# Altium footprint library con-tyco.PCBLIB: 9 footprints
Each footprint in its own frame and in the unit in brackets; x right, y up, seen from the top. Pads: shape width x height; smd on the part's side, far side on the other; paste and mask are expansions set on the pad; w line width, h text height; cw(c..) or ccw(c..) is an arc to the next point about the centre after c.
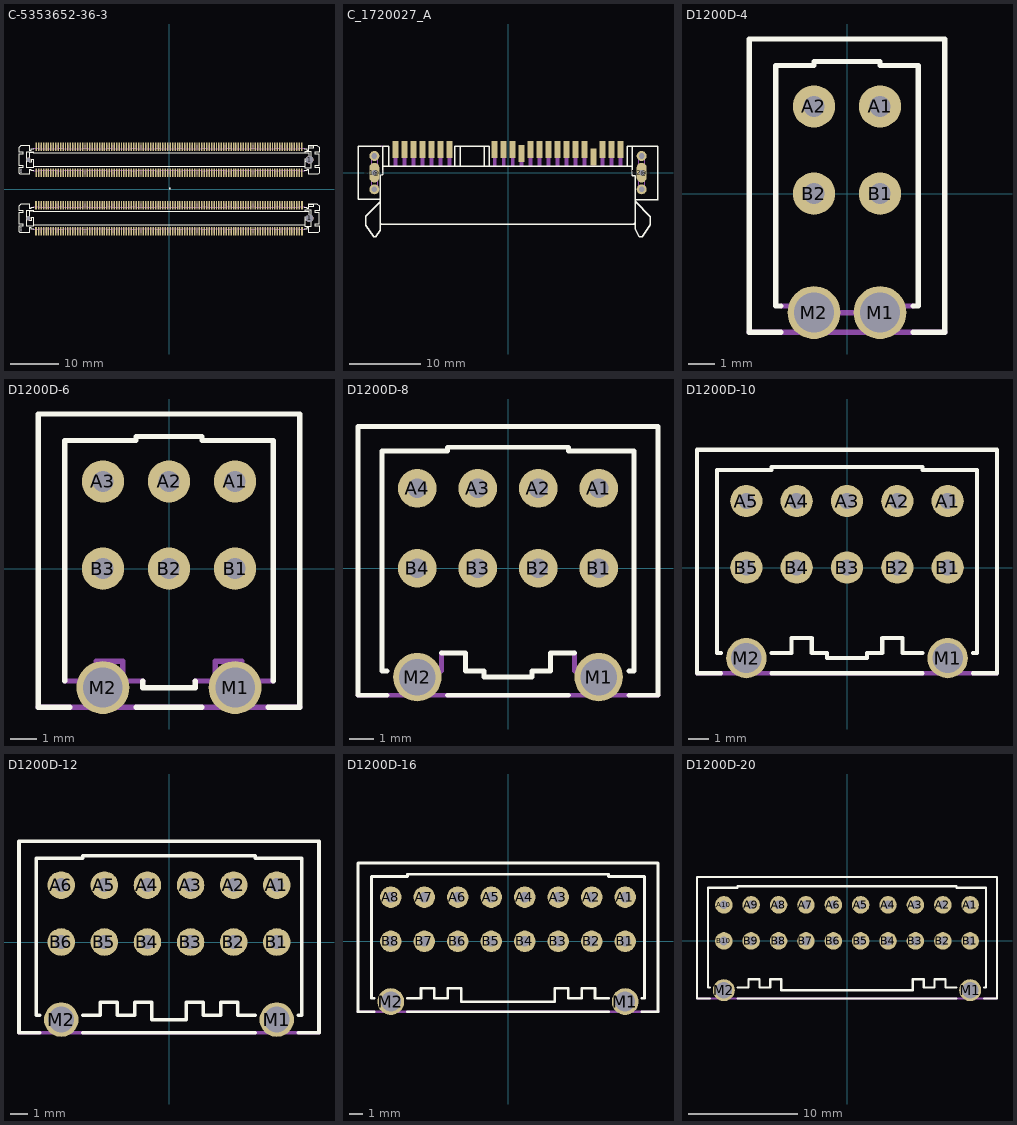
[diagram p0: the footprints below, top view; thin cyan lines are the x and y axes]

## C-5353652-36-3 [mm]
pads (446):
  round 0.9 hole 0.9: 1(-28.85,-6) 1(-28.85,-6) 1(-28.85,6)
  round 1.6 hole 1.6: 1(28.85,-6) 1(28.85,-6) 1(28.85,6)
  rect 0.3x1.75 smd: A1(27.25,8.675) A2(26.75,8.675) A3(26.25,8.675) A4(25.75,8.675) A5(25.25,8.675) A6(24.75,8.675) A7(24.25,8.675) A8(23.75,8.675) A9(23.25,8.675) A10(22.75,8.675) A11(22.25,8.675) A12(21.75,8.675) A13(21.25,8.675) A14(20.75,8.675) A15(20.25,8.675) A16(19.75,8.675) A17(19.25,8.675) A18(18.75,8.675) A19(18.25,8.675) A20(17.75,8.675) A21(17.25,8.675) A22(16.75,8.675) A23(16.25,8.675) A24(15.75,8.675) A25(15.25,8.675) A26(14.75,8.675) A27(14.25,8.675) A28(13.75,8.675) A29(13.25,8.675) A30(12.75,8.675) A31(12.25,8.675) A32(11.75,8.675) A33(11.25,8.675) A34(10.75,8.675) A35(10.25,8.675) A36(9.75,8.675) A37(9.25,8.675) A38(8.75,8.675) A39(8.25,8.675) A40(7.75,8.675) A41(7.25,8.675) A42(6.75,8.675) A43(6.25,8.675) A44(5.75,8.675) A45(5.25,8.675) A46(4.75,8.675) A47(4.25,8.675) A48(3.75,8.675) A49(3.25,8.675) A50(2.75,8.675) A51(2.25,8.675) A52(1.75,8.675) A53(1.25,8.675) A54(0.75,8.675) A55(0.25,8.675) A56(-0.25,8.675) A57(-0.75,8.675) A58(-1.25,8.675) A59(-1.75,8.675) A60(-2.25,8.675) A61(-2.75,8.675) A62(-3.25,8.675) A63(-3.75,8.675) A64(-4.25,8.675) A65(-4.75,8.675) A66(-5.25,8.675) A67(-5.75,8.675) A68(-6.25,8.675) A69(-6.75,8.675) A70(-7.25,8.675) A71(-7.75,8.675) A72(-8.25,8.675) A73(-8.75,8.675) A74(-9.25,8.675) A75(-9.75,8.675) A76(-10.25,8.675) A77(-10.75,8.675) A78(-11.25,8.675) A79(-11.75,8.675) A80(-12.25,8.675) A81(-12.75,8.675) A82(-13.25,8.675) A83(-13.75,8.675) A84(-14.25,8.675) A85(-14.75,8.675) A86(-15.25,8.675) A87(-15.75,8.675) A88(-16.25,8.675) A89(-16.75,8.675) A90(-17.25,8.675) A91(-17.75,8.675) A92(-18.25,8.675) A93(-18.75,8.675) A94(-19.25,8.675) A95(-19.75,8.675) A96(-20.25,8.675) A97(-20.75,8.675) A98(-21.25,8.675) A99(-21.75,8.675) A100(-22.25,8.675) A101(-22.75,8.675) A102(-23.25,8.675) A103(-23.75,8.675) A104(-24.25,8.675) A105(-24.75,8.675) A106(-25.25,8.675) A107(-25.75,8.675) A108(-26.25,8.675) A109(-26.75,8.675) A110(-27.25,8.675) B1(27.25,3.325) B2(26.75,3.325) B3(26.25,3.325) B4(25.75,3.325) B5(25.25,3.325) B6(24.75,3.325) B7(24.25,3.325) B8(23.75,3.325) B9(23.25,3.325) B10(22.75,3.325) B11(22.25,3.325) B12(21.75,3.325) B13(21.25,3.325) B14(20.75,3.325) B15(20.25,3.325) B16(19.75,3.325) B17(19.25,3.325) B18(18.75,3.325) B19(18.25,3.325) B20(17.75,3.325) B21(17.25,3.325) B22(16.75,3.325) B23(16.25,3.325) B24(15.75,3.325) B25(15.25,3.325) B26(14.75,3.325) B27(14.25,3.325) B28(13.75,3.325) B29(13.25,3.325) B30(12.75,3.325) B31(12.25,3.325) B32(11.75,3.325) B33(11.25,3.325) B34(10.75,3.325) B35(10.25,3.325) B36(9.75,3.325) B37(9.25,3.325) B38(8.75,3.325) B39(8.25,3.325) B40(7.75,3.325) B41(7.25,3.325) B42(6.75,3.325) B43(6.25,3.325) B44(5.75,3.325) B45(5.25,3.325) B46(4.75,3.325) B47(4.25,3.325) B48(3.75,3.325) B49(3.25,3.325) B50(2.75,3.325) B51(2.25,3.325) B52(1.75,3.325) B53(1.25,3.325) B54(0.75,3.325) B55(0.25,3.325) B56(-0.25,3.325) B57(-0.75,3.325) B58(-1.25,3.325) B59(-1.75,3.325) B60(-2.25,3.325) B61(-2.75,3.325) B62(-3.25,3.325) B63(-3.75,3.325) B64(-4.25,3.325) B65(-4.75,3.325) B66(-5.25,3.325) B67(-5.75,3.325) B68(-6.25,3.325) B69(-6.75,3.325) B70(-7.25,3.325) B71(-7.75,3.325) B72(-8.25,3.325) B73(-8.75,3.325) B74(-9.25,3.325) B75(-9.75,3.325) B76(-10.25,3.325) B77(-10.75,3.325) B78(-11.25,3.325) B79(-11.75,3.325) B80(-12.25,3.325) B81(-12.75,3.325) B82(-13.25,3.325) B83(-13.75,3.325) B84(-14.25,3.325) B85(-14.75,3.325) B86(-15.25,3.325) B87(-15.75,3.325) B88(-16.25,3.325) B89(-16.75,3.325) B90(-17.25,3.325) B91(-17.75,3.325) B92(-18.25,3.325) B93(-18.75,3.325) B94(-19.25,3.325) B95(-19.75,3.325) B96(-20.25,3.325) B97(-20.75,3.325) B98(-21.25,3.325) B99(-21.75,3.325) B100(-22.25,3.325) B101(-22.75,3.325) B102(-23.25,3.325) B103(-23.75,3.325) B104(-24.25,3.325) B105(-24.75,3.325) B106(-25.25,3.325) B107(-25.75,3.325) B108(-26.25,3.325) B109(-26.75,3.325) B110(-27.25,3.325) C2(26.75,-3.325) C3(26.25,-3.325) C4(25.75,-3.325) C5(25.25,-3.325) C6(24.75,-3.325) C7(24.25,-3.325) C8(23.75,-3.325) C9(23.25,-3.325) C10(22.75,-3.325) C11(22.25,-3.325) C12(21.75,-3.325) C13(21.25,-3.325) C14(20.75,-3.325) C15(20.25,-3.325) C16(19.75,-3.325) C17(19.25,-3.325) C18(18.75,-3.325) C19(18.25,-3.325) C20(17.75,-3.325) C21(17.25,-3.325) C22(16.75,-3.325) C23(16.25,-3.325) C24(15.75,-3.325) C25(15.25,-3.325) C26(14.75,-3.325) C27(14.25,-3.325) C28(13.75,-3.325) C29(13.25,-3.325) C30(12.75,-3.325) C31(12.25,-3.325) C32(11.75,-3.325) C33(11.25,-3.325) C34(10.75,-3.325) C35(10.25,-3.325) C36(9.75,-3.325) C37(9.25,-3.325) C38(8.75,-3.325) C39(8.25,-3.325) C40(7.75,-3.325) C41(7.25,-3.325) C42(6.75,-3.325) C43(6.25,-3.325) C44(5.75,-3.325) C45(5.25,-3.325) C46(4.75,-3.325) C47(4.25,-3.325) C48(3.75,-3.325) C49(3.25,-3.325) C50(2.75,-3.325) C51(2.25,-3.325) C52(1.75,-3.325) C53(1.25,-3.325) C54(0.75,-3.325) C55(0.25,-3.325) C56(-0.25,-3.325) C57(-0.75,-3.325) C58(-1.25,-3.325) C59(-1.75,-3.325) C60(-2.25,-3.325) C61(-2.75,-3.325) C62(-3.25,-3.325) C63(-3.75,-3.325) C64(-4.25,-3.325) C65(-4.75,-3.325) C66(-5.25,-3.325) C67(-5.75,-3.325) C68(-6.25,-3.325) C69(-6.75,-3.325) C70(-7.25,-3.325) C71(-7.75,-3.325) C72(-8.25,-3.325) C73(-8.75,-3.325) C74(-9.25,-3.325) C75(-9.75,-3.325) C76(-10.25,-3.325) C77(-10.75,-3.325) C78(-11.25,-3.325) C79(-11.75,-3.325) C80(-12.25,-3.325) C81(-12.75,-3.325) C82(-13.25,-3.325) C83(-13.75,-3.325) C84(-14.25,-3.325) C85(-14.75,-3.325) C86(-15.25,-3.325) C87(-15.75,-3.325) C88(-16.25,-3.325) C89(-16.75,-3.325) C90(-17.25,-3.325) C91(-17.75,-3.325) C92(-18.25,-3.325) C93(-18.75,-3.325) C94(-19.25,-3.325) C95(-19.75,-3.325) C96(-20.25,-3.325) C97(-20.75,-3.325) C98(-21.25,-3.325) C99(-21.75,-3.325) C100(-22.25,-3.325) C101(-22.75,-3.325) C102(-23.25,-3.325) C103(-23.75,-3.325) C104(-24.25,-3.325) C105(-24.75,-3.325) C106(-25.25,-3.325) C107(-25.75,-3.325) C108(-26.25,-3.325) C109(-26.75,-3.325) D2(26.75,-8.675) D3(26.25,-8.675) D4(25.75,-8.675) D5(25.25,-8.675) D6(24.75,-8.675) D7(24.25,-8.675) D8(23.75,-8.675) D9(23.25,-8.675) D10(22.75,-8.675) D11(22.25,-8.675) D12(21.75,-8.675) D13(21.25,-8.675) D14(20.75,-8.675) D15(20.25,-8.675) D16(19.75,-8.675) D17(19.25,-8.675) D18(18.75,-8.675) D19(18.25,-8.675) D20(17.75,-8.675) D21(17.25,-8.675) D22(16.75,-8.675) D23(16.25,-8.675) D24(15.75,-8.675) D25(15.25,-8.675) D26(14.75,-8.675) D27(14.25,-8.675) D28(13.75,-8.675) D29(13.25,-8.675) D30(12.75,-8.675) D31(12.25,-8.675) D32(11.75,-8.675) D33(11.25,-8.675) D34(10.75,-8.675) D35(10.25,-8.675) D36(9.75,-8.675) D37(9.25,-8.675) D38(8.75,-8.675) D39(8.25,-8.675) D40(7.75,-8.675) D41(7.25,-8.675) D42(6.75,-8.675) D43(6.25,-8.675) D44(5.75,-8.675) D45(5.25,-8.675) D46(4.75,-8.675) D47(4.25,-8.675) D48(3.75,-8.675) D49(3.25,-8.675) D50(2.75,-8.675) D51(2.25,-8.675) D52(1.75,-8.675) D53(1.25,-8.675) D54(0.75,-8.675) D55(0.25,-8.675) D56(-0.25,-8.675) D57(-0.75,-8.675) D58(-1.25,-8.675) D59(-1.75,-8.675) D60(-2.25,-8.675) D61(-2.75,-8.675) D62(-3.25,-8.675) D63(-3.75,-8.675) D64(-4.25,-8.675) D65(-4.75,-8.675) D66(-5.25,-8.675) D67(-5.75,-8.675) D68(-6.25,-8.675) D69(-6.75,-8.675) D70(-7.25,-8.675) D71(-7.75,-8.675) D72(-8.25,-8.675) D73(-8.75,-8.675) D74(-9.25,-8.675) D75(-9.75,-8.675) D76(-10.25,-8.675) D77(-10.75,-8.675) D78(-11.25,-8.675) D79(-11.75,-8.675) D80(-12.25,-8.675) D81(-12.75,-8.675) D82(-13.25,-8.675) D83(-13.75,-8.675) D84(-14.25,-8.675) D85(-14.75,-8.675) D86(-15.25,-8.675) D87(-15.75,-8.675) D88(-16.25,-8.675) D89(-16.75,-8.675) D90(-17.25,-8.675) D91(-17.75,-8.675) D92(-18.25,-8.675) D93(-18.75,-8.675) D94(-19.25,-8.675) D95(-19.75,-8.675) D96(-20.25,-8.675) D97(-20.75,-8.675) D98(-21.25,-8.675) D99(-21.75,-8.675) D100(-22.25,-8.675) D101(-22.75,-8.675) D102(-23.25,-8.675) D103(-23.75,-8.675) D104(-24.25,-8.675) D105(-24.75,-8.675) D106(-25.25,-8.675) D107(-25.75,-8.675) D108(-26.25,-8.675) D109(-26.75,-8.675)
  rect 0.45x1.75 smd: C1(27.325,-3.325) C110(-27.325,-3.325) D1(27.325,-8.675) D110(-27.325,-8.675)
Top Layer:
  region: 0,0 0.254,0 0.254,0.254 0,0.254
  region: 0,0 0.254,0 0.254,0.254 0,0.254
  region: 0,0 0.254,0 0.254,0.254 0,0.254
  region: 0,0 0.254,0 0.254,0.254 0,0.254
Top Overlay:
  region: 0,0 0.254,0 0.254,0.254 0,0.254
  region: 0,0 0.254,0 0.254,0.254 0,0.254
  lines w0.102: 28.725,-3.15 28.725,-3.675 29.6,-3.675 29.6,-3.125 28.75,-3.125 ; 28.725,8.85 28.725,8.325 29.6,8.325 29.6,8.875 28.75,8.875
  lines w0.203: -28.25,-3.8 -28.25,-3.7 ; -28.25,8.2 -28.25,8.3 ; -27.85,-4.5 -27.85,-4.525 ; -27.85,7.5 -27.85,7.475 ; -27.75,-8.3 -28.25,-8.3 -28.25,-8 -28.65,-8 -28.65,-9 -30.55,-9 -30.8,-8.75 -30.8,-7.55 -29.9,-7.55 -29.9,-7.25 -30.7,-7.25 -30.7,-4.75 -29.9,-4.75 -29.9,-4.45 -30.8,-4.45 -30.8,-3.45 -30.35,-3 -28.65,-3 -28.65,-4 -28.25,-4 -28.25,-3.7 ; -27.75,-3.7 -28.25,-3.7 ; -27.75,3.7 -28.25,3.7 -28.25,4 -28.65,4 -28.65,3 -30.55,3 -30.8,3.25 -30.8,4.45 -29.9,4.45 -29.9,4.75 -30.7,4.75 -30.7,7.25 -29.9,7.25 -29.9,7.55 -30.8,7.55 -30.8,8.55 -30.35,9 -28.65,9 -28.65,8 -28.25,8 -28.25,8.3 ; -27.75,8.3 -28.25,8.3 ; 27.75,-8.3 28.25,-8.3 28.25,-8 28.65,-8 28.65,-9 30.55,-9 30.8,-8.75 30.8,-7.55 29.9,-7.55 29.9,-7.25 30.7,-7.25 30.7,-4.75 29.9,-4.75 29.9,-4.45 30.8,-4.45 30.8,-3.45 30.35,-3 28.65,-3 28.65,-4 28.25,-4 28.25,-3.7 27.75,-3.7 ; 27.75,3.7 28.25,3.7 28.25,4 28.65,4 28.65,3 30.55,3 30.8,3.25 30.8,4.45 29.9,4.45 29.9,4.75 30.7,4.75 30.7,7.25 29.9,7.25 29.9,7.55 30.8,7.55 30.8,8.55 30.35,9 28.65,9 28.65,8 28.25,8 28.25,8.3 27.75,8.3 ; 27.825,-7.475 -27.85,-7.475 ; 27.825,4.525 -27.85,4.525 ; -27.85,-7.475 -27.85,-5.85 -28.15,-5.85 -28.15,-6.45 -28.675,-6.45 -28.675,-4.525 -27.85,-4.525 ; -27.85,-7.475 -27.85,-7.675 -29.25,-7.675 -29.25,-4.325 -27.85,-4.325 -27.85,-4.525 ; -27.85,-4.525 27.85,-4.525 ; -27.85,4.525 -27.85,6.15 -28.15,6.15 -28.15,5.55 -28.675,5.55 -28.675,7.475 -27.85,7.475 ; -27.85,4.525 -27.85,4.325 -29.25,4.325 -29.25,7.675 -27.85,7.675 -27.85,7.475 ; -27.85,7.475 27.85,7.475 ; 27.85,-4.525 28.675,-4.525 28.675,-6.45 28.15,-6.45 28.15,-5.85 27.85,-5.85 27.85,-7.675 29.25,-7.675 29.25,-4.35 27.85,-4.35 27.85,-4.525 ; 27.85,7.475 28.675,7.475 28.675,5.55 28.15,5.55 28.15,6.15 27.85,6.15 27.85,4.325 29.25,4.325 29.25,7.65 27.85,7.65 27.85,7.475
  text "220" at -30.5,4.175 h0.34
  text "220" at -30.5,-7.825 h0.34
Top Paste:
  region: 0,0 0.254,0 0.254,0.254 0,0.254
  region: 0,0 0.254,0 0.254,0.254 0,0.254
  region: 0,0 0.254,0 0.254,0.254 0,0.254
  region: 0,0 0.254,0 0.254,0.254 0,0.254
Top Solder:
  drawing of 444 lines, arcs and shapes, not listed
Mechanical 16:
  drawing of 640 lines, arcs and shapes, not listed

## C_1720027_A [mil]
pads (28):
  rect 35.43x94.49 smd: 1(-625.2,127.56) 2(-575.2,127.56) 3(-525.2,127.56) 4(-475.2,127.56) 5(-425.2,127.56) 6(-375.2,127.56) 7(-325.2,127.56) 8(-74.8,127.56) 9(-24.8,127.56) 10(25.2,127.56) 11(75.2,107.87) 12(125.2,127.56) 13(175.2,127.56) 14(225.2,127.56) 15(275.2,127.56) 16(325.2,127.56) 17(375.2,127.56) 18(425.2,127.56) 19(475.2,88.19) 20(525.2,127.56) 21(575.2,127.56) 22(625.2,127.56)
  round 55.12 hole 31.5: M1@1(-742.91,-92.52) M1@2(-742.91,92.52) M2@1(742.91,-92.52) M2@2(742.91,92.52)
  oval 55.12x110.24 hole 31.5: M1@3(-742.91,0) M2@3(742.91,0)
Top Overlay:
  lines w8: -833.75,-148.94 -711.1,-148.94 ; -833.66,-148.67 -833.66,146.83 ; -832.29,147.48 -703.8,147.48 ; -711.1,-275.97 -711.1,-319.78 -734.46,-356.28 -746.14,-356.28 -791.41,-292.03 -791.41,-242.39 -711.1,-162.08 ; -661.45,36.5 -661.45,147.48 -695.04,147.48 -695.04,36.5 ; -265.75,40.89 -265.75,143.09 ; -132.87,40.89 -132.87,143.09 ; 832.29,147.48 690.65,147.48 ; 833.66,-150.13 833.66,146.83 ; 833.75,-150.4 706.72,-150.4 ; -711.1,-162.08 -711.1,-274.51 ccw(c-697.96,-274.51) -697.96,-287.65 692.11,-287.65 ccw(c692.12,-273.05) 706.72,-273.05 706.72,-270.13 ; -711.1,-162.08 -711.1,-148.94 ; -711.1,-148.94 -711.1,-11.68 -695.04,-11.68 -695.04,36.5 ; -695.04,36.5 -296.41,36.5 ; -296.41,36.5 -103.67,36.5 ; -296.41,36.5 -296.41,147.48 -103.67,147.48 -103.67,36.5 ; -103.67,36.5 661.45,36.5 ; 661.45,36.5 690.65,36.5 ; 661.45,36.5 661.45,147.48 690.65,147.48 ; 690.65,36.5 690.65,147.48 ; 690.65,36.5 690.65,-16.06 706.72,-16.06 706.72,-150.4 ; 706.72,-270.13 706.72,-159.16 ; 706.72,-270.13 706.72,-313.93 730.08,-354.82 746.14,-354.82 791.41,-289.11 791.41,-245.31 706.72,-159.16 ; 706.72,-159.16 706.72,-150.4
Mechanical 11:
  lines w0: -758.66,-92.52 ccw(c-742.91,-92.52) -727.17,-92.52 -727.17,92.52 ccw(c-742.91,92.52) -758.66,92.52 -758.66,-92.52 ; 727.17,-92.52 ccw(c742.91,-92.52) 758.66,-92.52 758.66,92.52 ccw(c742.91,92.52) 727.17,92.52 727.17,-92.52
Mechanical 16:
  rectangle: -84.69,36.5 -64.25,146.02
  rectangle: -335.83,36.5 -315.39,146.02
  rectangle: -385.83,36.5 -365.39,146.02
  rectangle: -435.83,36.5 -415.39,146.02
  rectangle: -485.83,36.5 -465.39,146.02
  rectangle: -535.83,36.5 -515.39,146.02
  rectangle: -585.83,36.5 -565.39,146.02
  rectangle: -635.83,36.5 -615.39,146.02
  rectangle: -34.69,36.5 -14.25,146.02
  rectangle: 15.31,36.5 35.75,146.02
  rectangle: 65.31,36.5 85.75,127.04
  rectangle: 115.31,36.5 135.75,146.02
  rectangle: 165.31,36.5 185.75,146.02
  rectangle: 215.31,36.5 235.75,146.02
  rectangle: 265.31,36.5 285.75,146.02
  rectangle: 315.31,36.5 335.75,146.02
  rectangle: 365.31,36.5 385.75,146.02
  rectangle: 415.31,36.5 435.75,146.02
  rectangle: 515.31,36.5 535.75,146.02
  rectangle: 565.31,36.5 585.75,146.02
  rectangle: 615.31,36.5 635.75,146.02
  rectangle: 465.31,36.5 485.75,127.03
  lines w8: -703.8,147.48 -695.04,147.48

## D1200D-4 [mm]
pads (6):
  round 1.6 hole 0.8: A1(1.25,3.3) A2(-1.25,3.3) B1(1.25,0) B2(-1.25,0)
  round 2 hole 1.5: M1(1.25,-4.5) M2(-1.25,-4.5)
Top Overlay:
  lines w0.203: -2.5,-5.25 -3.7,-5.25 -3.7,5.85 3.7,5.85 3.7,-5.25 2.5,-5.25 ; -2.5,-4.25 -2.7,-4.25 -2.7,4.85 -1.25,4.85 -1.25,5 1.25,5 1.25,4.85 2.7,4.85 2.7,-4.25 2.5,-4.25
Mechanical 16:
  lines w0.203: -3.7,-5.25 3.7,-5.25 ; -2.475,-4.25 -1,-4.25 -1,-4.5 1,-4.5 1,-4.25 2.5,-4.25

## D1200D-6 [mil]
pads (8):
  round 62.99 hole 31.5: A1(98.43,129.92) A2(0,129.92) A3(-98.43,129.92) B1(98.43,0) B2(0,0) B3(-98.43,0)
  round 78.74 hole 59.06: M1(98.43,-177.17) M2(-98.43,-177.17)
Top Overlay:
  lines w8: -155.51,-167.32 -155.51,190.94 -49.21,190.94 -49.21,196.85 49.21,196.85 49.21,190.94 155.51,190.94 155.51,-167.32 ; -147.64,-206.69 -194.88,-206.69 -194.88,230.32 194.88,230.32 194.88,-206.69 147.64,-206.69 ; -49.21,-206.69 49.21,-206.69 ; -39.37,-167.32 -39.37,-177.17 39.37,-177.17 39.37,-167.32
Mechanical 16:
  lines w8: -194.88,-206.69 194.88,-206.69 ; -155.51,-167.32 -108.27,-167.32 -108.27,-137.8 -68.9,-137.8 -68.9,-167.32 -39.37,-167.32 ; 39.37,-167.32 68.9,-167.32 68.9,-137.8 108.27,-137.8 108.27,-167.32 155.51,-167.32

## D1200D-8 [mil]
pads (10):
  round 62.99 hole 31.5: A1(147.64,129.92) A2(49.21,129.92) A3(-49.21,129.92) A4(-147.64,129.92) B1(147.64,0) B2(49.21,0) B3(-49.21,0) B4(-147.64,0)
  round 78.74 hole 59.06: M1(147.64,-177.17) M2(-147.64,-177.17)
Top Overlay:
  lines w8: -196.85,-206.69 -244.09,-206.69 -244.09,230.32 244.09,230.32 244.09,-206.69 196.85,-206.69 ; -196.85,-167.32 -204.72,-167.32 -204.72,190.94 -98.43,190.94 -98.43,196.85 98.43,196.85 98.43,190.94 204.72,190.94 204.72,-167.32 196.85,-167.32 ; -108.27,-137.8 -68.9,-137.8 -68.9,-167.32 -39.37,-167.32 -39.37,-177.17 39.37,-177.17 39.37,-167.32 68.9,-167.32 68.9,-137.8 108.27,-137.8 ; -98.43,-206.69 98.43,-206.69
Mechanical 16:
  lines w8: -244.09,-206.69 244.09,-206.69 ; -108.27,-167.32 -108.27,-137.8 ; 108.27,-167.32 108.27,-137.8

## D1200D-10 [mm]
pads (12):
  round 1.6 hole 0.8: A1(5,3.3) A2(2.5,3.3) A3(0,3.3) A4(-2.5,3.3) A5(-5,3.3) B1(5,0) B2(2.5,0) B3(0,0) B4(-2.5,0) B5(-5,0)
  round 2 hole 1.5: M1(5,-4.5) M2(-5,-4.5)
Top Overlay:
  lines w0.203: -6.25,-5.25 -7.45,-5.25 -7.45,5.85 7.45,5.85 7.45,-5.25 6.25,-5.25 ; -6.25,-4.25 -6.45,-4.25 -6.45,4.85 -3.75,4.85 -3.75,5 3.75,5 3.75,4.85 6.45,4.85 6.45,-4.25 6.25,-4.25 ; -3.75,-5.25 3.75,-5.25 ; -3.75,-4.25 -2.75,-4.25 -2.75,-3.5 -1.75,-3.5 -1.75,-4.25 -1,-4.25 -1,-4.5 1,-4.5 1,-4.25 1.75,-4.25 1.75,-3.5 2.75,-3.5 2.75,-4.25 3.75,-4.25
Mechanical 16:
  lines w0.203: -7.45,-5.25 7.45,-5.25

## D1200D-12 [mil]
pads (14):
  round 62.99 hole 31.5: A1(246.06,129.92) A2(147.64,129.92) A3(49.21,129.92) A4(-49.21,129.92) A5(-147.64,129.92) A6(-246.06,129.92) B1(246.06,0) B2(147.64,0) B3(49.21,0) B4(-49.21,0) B5(-147.64,0) B6(-246.06,0)
  round 78.74 hole 59.06: M1(246.06,-177.17) M2(-246.06,-177.17)
Top Overlay:
  lines w8: -295.28,-206.69 -342.52,-206.69 -342.52,230.32 342.52,230.32 342.52,-206.69 295.28,-206.69 ; -295.28,-167.32 -303.15,-167.32 -303.15,190.94 -196.85,190.94 -196.85,196.85 196.85,196.85 196.85,190.94 303.15,190.94 303.15,-167.32 295.28,-167.32 ; -196.85,-206.69 196.85,-206.69 ; -196.85,-167.32 -157.48,-167.32 -157.48,-137.8 -118.11,-137.8 -118.11,-167.32 -78.74,-167.32 -78.74,-137.8 -39.37,-137.8 -39.37,-177.17 39.37,-177.17 39.37,-137.8 78.74,-137.8 78.74,-167.32 118.11,-167.32 118.11,-137.8 157.48,-137.8 157.48,-167.32 196.85,-167.32
Mechanical 16:
  lines w8: -342.52,-206.69 342.52,-206.69

## D1200D-16 [mil]
pads (18):
  round 62.99 hole 31.5: A1(344.49,129.92) A2(246.06,129.92) A3(147.64,129.92) A4(49.21,129.92) A5(-49.21,129.92) A6(-147.64,129.92) A7(-246.06,129.92) A8(-344.49,129.92) B1(344.49,0) B2(246.06,0) B3(147.64,0) B4(49.21,0) B5(-49.21,0) B6(-147.64,0) B7(-246.06,0) B8(-344.49,0)
  round 78.74 hole 59.06: M1(344.49,-177.17) M2(-344.49,-177.17)
Top Overlay:
  lines w8: -393.7,-206.69 -440.94,-206.69 -440.94,230.32 440.94,230.32 440.94,-206.69 393.7,-206.69 ; -393.7,-167.32 -401.57,-167.32 -401.57,190.94 -295.28,190.94 -295.28,196.85 295.28,196.85 295.28,190.94 401.57,190.94 401.57,-167.32 393.7,-167.32 ; -295.28,-206.69 295.28,-206.69 ; -295.28,-167.32 -255.91,-167.32 -255.91,-137.8 -216.54,-137.8 -216.54,-167.32 -177.17,-167.32 -177.17,-137.8 -137.8,-137.8 -137.8,-177.17 137.8,-177.17 137.8,-137.8 177.17,-137.8 177.17,-167.32 216.54,-167.32 216.54,-137.8 255.91,-137.8 255.91,-167.32 295.28,-167.32
Mechanical 16:
  lines w8: -440.94,-206.69 440.94,-206.69

## D1200D-20 [mil]
pads (22):
  round 62.99 hole 31.5: A1(442.91,129.92) A2(344.49,129.92) A3(246.06,129.92) A4(147.64,129.92) A5(49.21,129.92) A6(-49.21,129.92) A7(-147.64,129.92) A8(-246.06,129.92) A9(-344.49,129.92) A10(-442.91,129.92) B1(442.91,0) B2(344.49,0) B3(246.06,0) B4(147.64,0) B5(49.21,0) B6(-49.21,0) B7(-147.64,0) B8(-246.06,0) B9(-344.49,0) B10(-442.91,0)
  round 78.74 hole 59.06: M1(442.91,-177.17) M2(-442.91,-177.17)
Top Overlay:
  lines w8: -492.13,-206.69 -539.37,-206.69 -539.37,230.32 539.37,230.32 539.37,-206.69 492.13,-206.69 ; -492.13,-167.32 -500,-167.32 -500,190.94 -393.7,190.94 -393.7,196.85 393.7,196.85 393.7,190.94 500,190.94 500,-167.32 492.13,-167.32 ; -393.7,-206.69 393.7,-206.69 ; -393.7,-167.32 -354.33,-167.32 -354.33,-137.8 -314.96,-137.8 -314.96,-167.32 -275.59,-167.32 -275.59,-137.8 -236.22,-137.8 -236.22,-167.32 -236.22,-177.17 236.22,-177.17 236.22,-167.32 236.22,-137.8 275.59,-137.8 275.59,-167.32 314.96,-167.32 314.96,-137.8 354.33,-137.8 354.33,-167.32 393.7,-167.32
Mechanical 16:
  lines w8: -539.37,-206.69 539.37,-206.69